# Altium schematic symbol library affichage.SchLib: 17 symbols
Pins are listed as number, name and electrical type; pins without a type are passive.

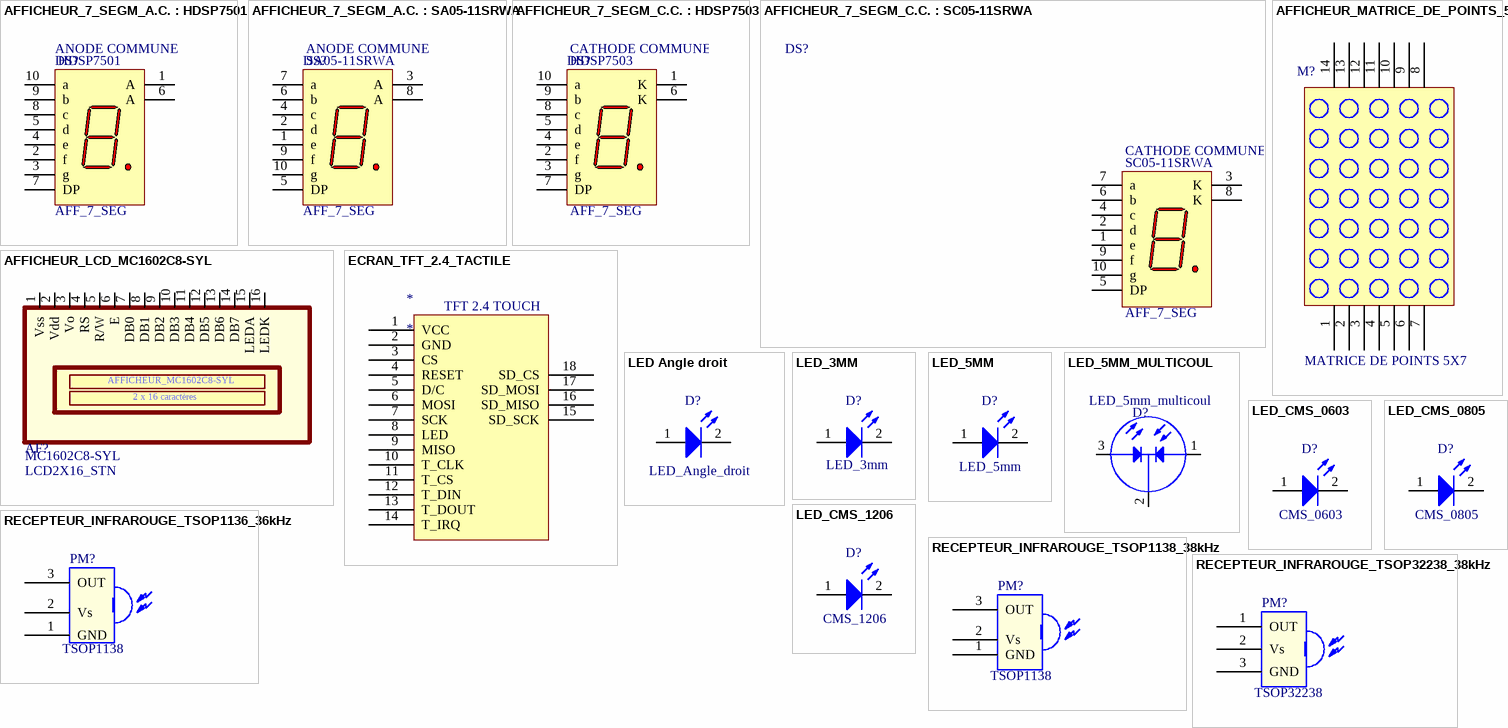
[diagram p0: symbols AFFICHEUR_7_SEGM_A.C. : HDSP7501 to RECEPTEUR_INFRAROUGE_TSOP32238_38kHz]

## AFFICHEUR_7_SEGM_A.C. : HDSP7501
designator DS?  Type: ANODE COMMUNE  Name: HDSP7501  (hidden comment: AFFICHEUR_7_SEGM_A.C. : HDSP7501)
AFFICHEUR 7 SEGMENTS - ANODE COMMUNE - 7.6mm - BROCHAGE GAUCHE/DROITE : HDSP7501
simulation model HDSP_7501 (SUBCKT)
footprint AFFICHEUR_7_SEGMENTS_HDSP750X (AFFICHEUR 7 SEGMENTS; HDSP750X ; 7.62mm ; 10 BROCHES ; ESPACE ENTRE RANGEES : 7.62mm ; PAS : 2.54mm)
pins: 1 A "Anode", 2 f "Cathode", 3 g "Cathode", 4 e "Cathode", 5 d "Cathode", 6 A "Anode", 7 DP "Cathode", 8 c "Cathode", 9 b "Cathode", 10 a "Cathode"
text: AFF_7_SEG

## AFFICHEUR_7_SEGM_A.C. : SA05-11SRWA
designator DS?  Type: ANODE COMMUNE  Name: SA05-11SRWA  (hidden comment: AFFICHEUR_7_SEGM_A.C. : SA05-11SRWA)
AFFICHEUR 7 SEGMENTS - ANODE COMMUNE - 7.6mm - BROCHAGE HAUT/BAS : SA05-11SRWA
simulation model HDSP_7501 (SUBCKT)
footprint AFFICHEUR_7_SEGMENTS_Sx05-11SRWA (AFFICHEUR 7 SEGMENTS; SA05-11SRWA ; 10 BROCHES ; ESPACE ENTRE RANGEES : 15.24mm ; PAS : 2.54mm)
pins: 1 e "Cathode", 2 d "Cathode", 3 A "Anode", 4 c "Cathode", 5 DP "Cathode", 6 b "Cathode", 7 a "Cathode", 8 A "Anode", 9 f "Cathode", 10 g "Cathode"
text: AFF_7_SEG

## AFFICHEUR_7_SEGM_C.C. : HDSP7503
designator DS?, comment Name: HDSP7503  Type: CATHODE COMMUNE  (hidden comment: AFFICHEUR 7 SEGM_C.C. : HDSP7503)
AFFICHEUR 7 SEGMENTS - CATHODE COMMUNE - 7.6mm - BROCHAGE GAUCHE/DROITE : HDSP7503
simulation model HDSP_7503 (SUBCKT)
footprint AFFICHEUR_7_SEGMENTS_HDSP750X (AFFICHEUR 7 SEGMENTS; HDSP750X ; 7.62mm ; 10 BROCHES ; ESPACE ENTRE RANGEES : 7.62mm ; PAS : 2.54mm)
pins: 1 K "Cathode", 2 f "Anode", 3 g "Anode", 4 e "Anode", 5 d "Anode", 6 K "Cathode", 7 DP "Anode", 8 c "Anode", 9 b "Anode", 10 a "Anode"
text: AFF_7_SEG

## AFFICHEUR_7_SEGM_C.C. : SC05-11SRWA
designator DS?, comment Name: SC05-11SRWA  Type: CATHODE COMMUNE  (hidden comment: AFFICHEUR 7 SEGM_C.C. : SC05-11SRWA)
AFFICHEUR 7 SEGMENTS - CATHODE COMMUNE - 7.6mm - BROCHAGE HAUT/BAS : SC05-11SRWA
simulation model HDSP_7503 (SUBCKT)
footprint AFFICHEUR_7_SEGMENTS_Sx05-11SRWA (AFFICHEUR 7 SEGMENTS; SA05-11SRWA ; 10 BROCHES ; ESPACE ENTRE RANGEES : 15.24mm ; PAS : 2.54mm)
pins: 1 e "Anode", 2 d "Anode", 3 K "Cathode", 4 c "Anode", 5 DP "Anode", 6 b "Anode", 7 a "Anode", 8 K "Cathode", 9 f "Anode", 10 g "Anode"
text: AFF_7_SEG

## AFFICHEUR_LCD_MC1602C8-SYL
designator AF?, comment Type: LCD2X16_STN  Name: MC1602C8-SYL  (hidden comment: AFFICHEUR_LCD_2X16_)
AFFICHEUR LCD - 2x16 LIGNES - 5X7 DOTS - STN - 80mm x 36mm
footprint AFFICHEUR_LCD_MC1602C8-SYL (AFFICHEUR LCD 2x16 - 80mm x 35mm)
pins: 1 Vss, 2 Vdd, 3 Vo, 4 RS, 5 R/W, 6 E, 7 DB0, 8 DB1, 9 DB2, 10 DB3, 11 DB4, 12 DB5, 13 DB6, 14 DB7, 15 LEDA, 16 LEDK
text: AFFICHEUR_MC1602C8-SYL; 2 x 16 caractères

## AFFICHEUR_MATRICE_DE_POINTS_5X7
designator M?  Type: MATRICE DE POINTS 5X7  (hidden comment: AFFICHEUR_MATRICE_DE_POINTS_5X7)
AFFICHEUR MATRICE DE POINTS 5x7
footprint AFFICHEUR_MATRICE_DE_POINTS_5X7 (AFFICHEUR MATRICE DE POINTS 5x7 ; DIMENSIONS : 38.1mm x 53mm ; ESPACEMENT BROCHES : 2.54mm ; ESPACEMENT RANGEES : 38.1mm)
pins: 1, 2, 3, 4, 5, 6, 7, 8, 9, 10, 11, 12, 13, 14

## ECRAN_TFT_2.4_TACTILE
designator *
footprint ECRAN_TFT_2.4_TACTILE (Footprint not found)
pins: 1 VCC, 2 GND, 3 CS, 4 RESET, 5 D/C, 6 MOSI, 7 SCK, 8 LED, 9 MISO, 10 T_CLK, 11 T_CS, 12 T_DIN, 13 T_DOUT, 14 T_IRQ, 15 SD_SCK, 16 SD_MISO, 17 SD_MOSI, 18 SD_CS
text: TFT 2.4 TOUCH

## LED Angle droit
designator D?, comment Type: LED_Angle_droit  (hidden comment: LED_3MM)
LED Angle droit - ROUGE
simulation model LED2 (Diode)
footprint LED_Angle_droit (LED CMS 0805 ; DIMENSIONS : 2.0mm x 0.9mm)
pins: 1, 2

## LED_3MM
designator D?
LED 3MM - ROUGE/VERTE/JAUNE; Type: LED_3mm
simulation model LED2 (Diode)
footprint LED_3MM (LED 3MM ; ESPACEMENT BROCHES : 2.54mm)
pins: 1, 2

## LED_5MM
designator D?
LED 5MM - ROUGE/VERTE/JAUNE; Type: LED_5mm
simulation model LED2 (Diode)
footprint LED_5MM (LED 5mm ; ESPACEMENT BROCHES : 2.54mm)
pins: 1, 2

## LED_5MM_MULTICOUL
designator D?
LED 5MM_MULTICOULOUL - ROUGE/VERTE; Type: LED_5mm_multicoul
simulation model LED2 (Diode)
pins: 1, 2, 3

## LED_CMS_0603
designator D?  Type: CMS_0603  (hidden comment: LED_CMS_0603)
LED CMS 0603
simulation model LED2 (Diode)
footprint LED_CMS_0603 (LED CMS 0603 ; DIMENSIONS : 2.0mm x 0.9mm)
pins: 1, 2

## LED_CMS_0805
designator D?  Type: CMS_0805  (hidden comment: LED_CMS_0805)
LED CMS 0805
simulation model LED2 (Diode)
footprint LED_CMS_0805 (LED CMS 0805 ; DIMENSIONS : 2.0mm x 0.9mm)
pins: 1, 2

## LED_CMS_1206
designator D?  Type: CMS_1206  (hidden comment: LED_CMS_1206)
LED CMS 1206
simulation model LED2 (Diode)
footprint LED_CMS_1206 (LED CMS 1206 ; DIMENSIONS : 3.2mm x 1.6mm)
pins: 1, 2

## RECEPTEUR_INFRAROUGE_TSOP1136_36kHz
designator PM?, comment Type: TSOP1138  (hidden comment: RECEPTEUR_INFRAROUGE_TSOP1136)
RECEPTEUR_INFRAROUGE_TSOP1136_36kHz
footprint RECEPTEUR_INFRAROUGE_TSOP (RECEPTEUR INFRAROUGE ; ESPACEMENT BROCHES : 2.54mm)
pins: 1 GND, 2 Vs, 3 OUT

## RECEPTEUR_INFRAROUGE_TSOP1138_38kHz
designator PM?, comment Type: TSOP1138  (hidden comment: RECEPTEUR_INFRAROUGE_TSOP1138)
RECEPTEUR_INFRAROUGE_TSOP1138_38kHz
footprint RECEPTEUR_INFRAROUGE_TSOP (RECEPTEUR INFRAROUGE ; ESPACEMENT BROCHES : 2.54mm)
pins: 1 GND, 2 Vs, 3 OUT

## RECEPTEUR_INFRAROUGE_TSOP32238_38kHz
designator PM?, comment Type: TSOP32238  (hidden comment: RECEPTEUR_INFRAROUGE_TSOP32238)
RECEPTEUR_INFRAROUGE_TSOP32238_38kHz
footprint RECEPTEUR_INFRAROUGE_TSOP32238 (RECEPTEUR INFRAROUGE ; ESPACEMENT BROCHES : 2.54mm)
pins: 1 OUT, 2 Vs, 3 GND